# EAGLE library part MOLEX_105450-0101 (library MTM_untested)
USB - C USB 3.1, Superspeed+ Receptacle Connector 24 Position Surface Mount, Right Angle; Through Hole
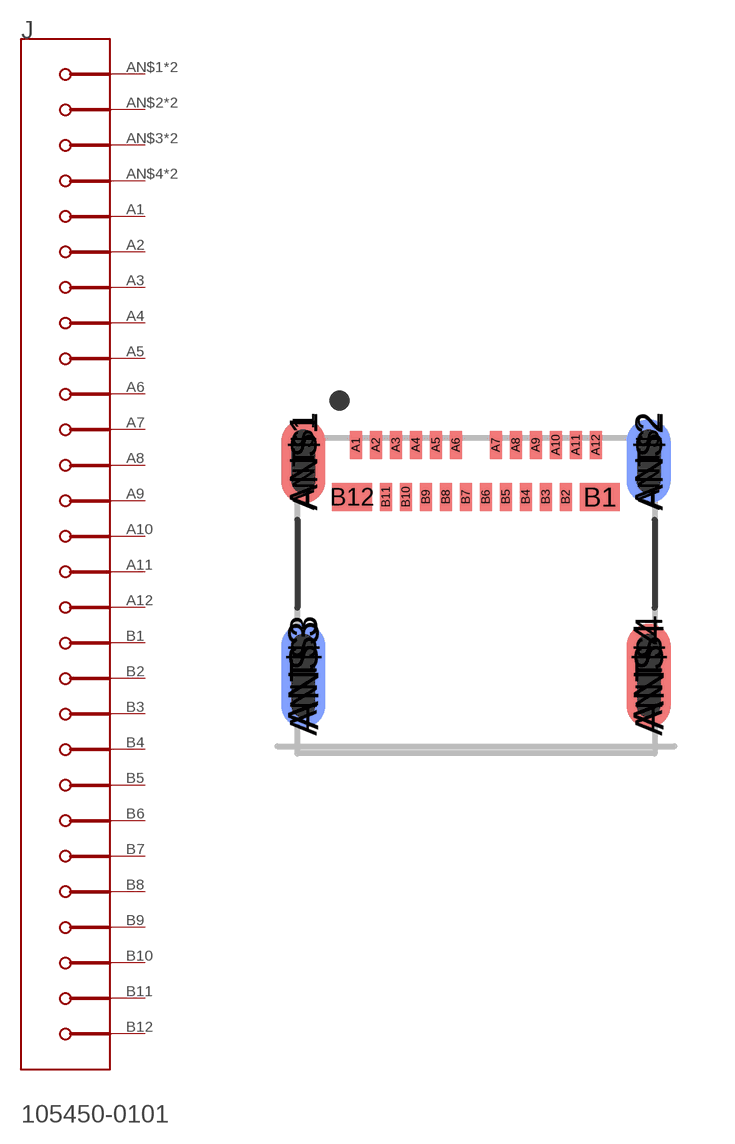
[diagram p8: symbol with the pads of MOLEX_105450-0101_0; footprint MOLEX_105450-0101_0]

Designator prefix J

## MOLEX_105450-0101MOLEX_105450-0101_0_0 (CENTROID_NOT_SPECIFIED: No; CONTACT_FINISH: Gold; CURRENT_RATING: 0.25A, 1A, 5A; DATASHEET: http://www.molex.com/pdm_docs/sd/1054500101_sd.pdf; DESCRIPTION: USB - C USB 3.1, Superspeed+ Receptacle Connector 24 Position Surface Mount, Right Angle; Through Hole; DIGIKEY_DESCRIPTION: CONN RCPT USB C 3.1 SMT R/A; DIGIKEY_PART_NUMBER: WM12856CT-ND; IS_FEMALE: yes; LEAD_FREE: yes; MATING_CYCLES: 10000; MF: Molex; MOUSER_PART_NUMBER: 538-105450-0101; MPN: 105450-0101; NUMBER_OF_PORTS: 1; PACKAGE: CONN_SMT_8MM94_7MM9_USB; PREFIX: J; ROHS: yes; SHIELDING: Shielded; TEMPERATURE_RANGE_HIGH: +85°C; TEMPERATURE_RANGE_LOW: -30°C; VOLTAGE_-_RATED: 30VAC/DC)  [MOLEX_105450-0101_0]
A1  1_GND  pwr
A2  TX1+
A3  TX1-
A4  1_VBUS  pwr
A5  CC1
A6  1_D+
A7  1_D-
A8  SBU1
A9  2_VBUS  pwr
A10  RX2-
A11  RX2+
A12  2_GND  pwr
AN$1  MNT_1
AN$2  MNT_2
AN$3  MNT_3
AN$4  MNT_4
ANT$1  MNT_1
ANT$2  MNT_2
ANT$3  MNT_3
ANT$4  MNT_4
B1  3_GND  pwr
B2  TX2+
B3  TX2-
B4  3_VBUS  pwr
B5  CC2
B6  2_D+
B7  2_D-
B8  SBU2
B9  4_VBUS  pwr
B10  RX1-
B11  RX1+
B12  4_GND  pwr

## Footprint MOLEX_105450-0101_0 (pad centres in mm)
USB - C USB 3.1, Superspeed+ Receptacle Connector 24 Position Surface Mount, Right Angle; Through Hole
smd 0.3 x 0.7: A1 -3,3.77; A2 -2.5,3.77; A3 -2,3.77; A4 -1.5,3.77; A5 -1,3.77; A6 -0.5,3.77; A7 0.5,3.77; A8 1,3.77; A9 1.5,3.77; A10 2,3.77; A11 2.5,3.77; A12 3,3.77; B2 2.25,2.47; B3 1.75,2.47; B4 1.25,2.47; B5 0.75,2.47; B6 0.25,2.47; B7 -0.25,2.47; B8 -0.75,2.47; B9 -1.25,2.47; B10 -1.75,2.47; B11 -2.25,2.47
smd 1.1 x 2.1 bottom: AN$1 -4.32,3.36; AN$2 4.32,3.36
smd 1.1 x 2.6 bottom: AN$3 -4.32,-2; AN$4 4.32,-2
smd 1.1 x 2.1: ANT$1 -4.32,3.36; ANT$2 4.32,3.36
smd 1.1 x 2.6: ANT$3 -4.32,-2; ANT$4 4.32,-2
smd 1 x 0.7: B1 3.1,2.47; B12 -3.1,2.47